# Altium footprint library LS1C300B_176A_Msystem.PcbLib: 22 footprints (part 2 of 2)
Each footprint in its own frame and in the unit in brackets; x right, y up, seen from the top. Pads: shape width x height; smd on the part's side, far side on the other; paste and mask are expansions set on the pad; w line width, h text height; cw(c..) or ccw(c..) is an arc to the next point about the centre after c.
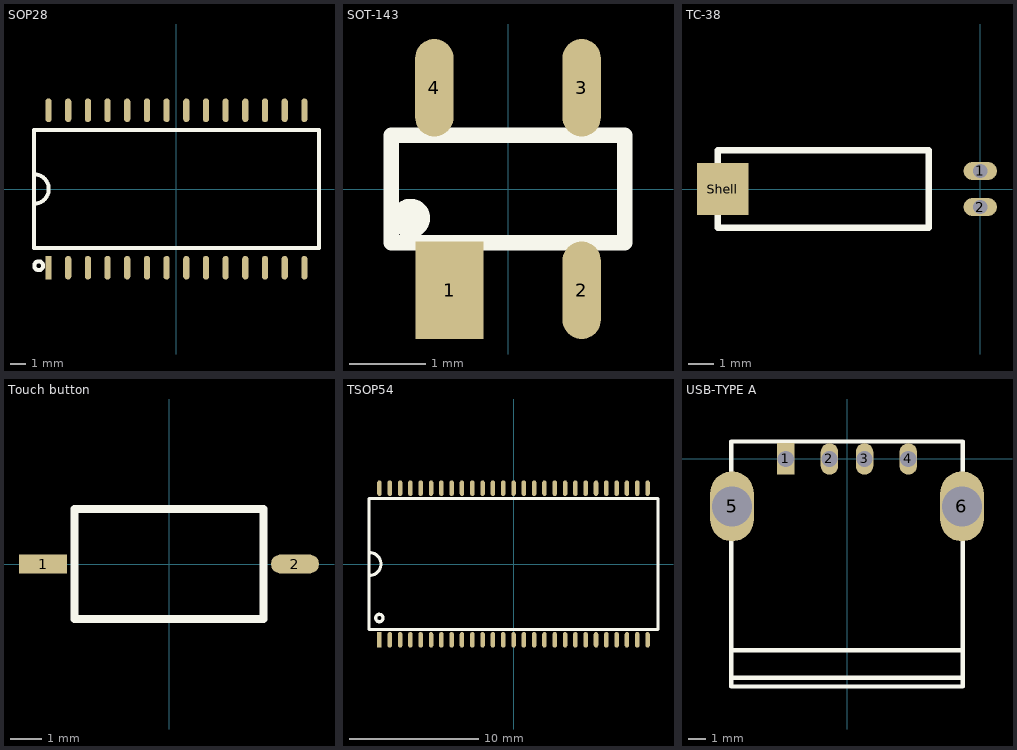
[diagram p1: the footprints below, top view; thin cyan lines are the x and y axes]

## SOP28 [mm] "body  18.4*7.62mm,引脚 18.4*10.16mm，脚间距1.27mm"
height 0.6
pads (28):
  rect 0.4x1.524 smd: 1(-8.255,-5.08)
  oval 0.4x1.524 smd: 2(-6.985,-5.08) 3(-5.715,-5.08) 4(-4.445,-5.08) 5(-3.175,-5.08) 6(-1.905,-5.08) 7(-0.635,-5.08) 8(0.635,-5.08) 9(1.905,-5.08) 10(3.175,-5.08) 11(4.445,-5.08) 12(5.715,-5.08) 13(6.985,-5.08) 14(8.255,-5.08) 15(8.255,5.08) 16(6.985,5.08) 17(5.715,5.08) 18(4.445,5.08) 19(3.175,5.08) 20(1.905,5.08) 21(0.635,5.08) 22(-0.635,5.08) 23(-1.905,5.08) 24(-3.175,5.08) 25(-4.445,5.08) 26(-5.715,5.08) 27(-6.985,5.08) 28(-8.255,5.08)
Top Overlay:
  circle w0.254: c-8.89,-4.953 r0.284
  lines w0.254: -9.2,-0.96 ccw(c-9.2,0) -9.2,0.96 ; -9.2,-3.81 -9.2,3.81 9.2,3.81 9.2,-3.81 -9.2,-3.81
3D body: height 2.54, standoff 0.1, extent -9.144,-3.81 9.271,3.81

## SOT-143 [mm] "长3.04mm，宽1.4mm，脚间距2.64*1.92mm"
height 1.22
pads (4):
  rect 0.89x1.27 smd: 1(-0.762,-1.32)
  oval 0.5x1.27 smd: 2(0.96,-1.32) 3(0.96,1.32) 4(-0.96,1.32)
Top Overlay:
  circle w0.254: c-1.27,-0.381 r0.127
  lines w0.2: -1.52,-0.7 -1.52,0.7 1.52,0.7 1.52,-0.7 -1.52,-0.7
3D body: height 0.5, standoff 0.1, extent -1.143,-1.397 -0.381,-0.762
3D body: height 0.5, standoff 0.1, extent 0.762,-1.397 1.143,-0.762
3D body: height 0.5, standoff 0.1, extent 0.762,0.635 1.143,1.27
3D body: height 0.5, standoff 0.1, extent -1.143,0.635 -0.762,1.27
3D body: height 1.22, standoff 0.1, extent -1.524,-0.762 1.524,0.762

## TC-38 [mm] "长度8.2mm，直径3mm，脚间距1.1mm（1.4mm）"
height 8.2
pads (3):
  oval 1.3x0.7 hole 0.55: 1(0,0.7) 2(0,-0.7)
  rect 2x2 smd: Shell(-10,0)
Top Overlay:
  lines w0.254: -10.2,-1.5 -2,-1.5 -2,1.5 -10.2,1.5 -10.2,-1.5
3D body: height 1.5, standoff 1.2, extent -2.286,-0.841 0,-0.429
3D body: height 1.5, standoff 1.2, extent -2.286,0.508 0,0.92
3D body: height 2.99, standoff 0, extent -10.16,-1.497 -2.16,1.497

## Touch button [mm] "3.5*6*2.5mm"
height 2.5
pads (2):
  rect 1.524x0.6 smd: 1(-4,0)
  oval 1.524x0.6 smd: 2(4,0)
Top Overlay:
  lines w0.254: -3,-1.75 -3,1.75 3,1.75 3,-1.75 -3,-1.75
3D body: height 1.2, standoff 1, extent 1.524,-0.762 2.667,0.762
3D body: height 1.2, standoff 1, extent -2.667,-0.762 -1.524,0.762
3D body: height 0.7, standoff 0.5, extent -3.048,-1.905 3.048,-0.762
3D body: height 0.7, standoff 0.5, extent -3.048,0.762 3.048,1.905
3D body: height 0.7, standoff 0.1, extent -3.048,-1.905 3.048,-1.778
3D body: height 0.7, standoff 0.1, extent -3.048,1.778 3.048,1.905
3D body: height 2.5, standoff 0.5, extent -1.27,-0.635 1.27,0.635
3D body: height 1, standoff 0.5, extent -2.667,-1.397 2.667,1.397
3D body: height 0.5, standoff 0.1, extent -3.048,-1.778 3.048,1.778

## TSOP54 [mm] "body 长宽22.22mm*10.16mm，引脚长宽22.22mm*11.76mm，脚间距0.8mm"
height 1.2
pads (54):
  rect 0.35x1.2 smd: 1(-10.4,-5.88)
  oval 0.35x1.2 smd: 2(-9.6,-5.88) 3(-8.8,-5.88) 4(-8,-5.88) 5(-7.2,-5.88) 6(-6.4,-5.88) 7(-5.6,-5.88) 8(-4.8,-5.88) 9(-4,-5.88) 10(-3.2,-5.88) 11(-2.4,-5.88) 12(-1.6,-5.88) 13(-0.8,-5.88) 14(0,-5.88) 15(0.8,-5.88) 16(1.6,-5.88) 17(2.4,-5.88) 18(3.2,-5.88) 19(4,-5.88) 20(4.8,-5.88) 21(5.6,-5.88) 22(6.4,-5.88) 23(7.2,-5.88) 24(8,-5.88) 25(8.8,-5.88) 26(9.6,-5.88) 27(10.4,-5.88) 28(10.4,5.88) 29(9.6,5.88) 30(8.8,5.88) 31(8,5.88) 32(7.2,5.88) 33(6.4,5.88) 34(5.6,5.88) 35(4.8,5.88) 36(4,5.88) 37(3.2,5.88) 38(2.4,5.88) 39(1.6,5.88) 40(0.8,5.88) 41(0,5.88) 42(-0.8,5.88) 43(-1.6,5.88) 44(-2.4,5.88) 45(-3.2,5.88) 46(-4,5.88) 47(-4.8,5.88) 48(-5.6,5.88) 49(-6.4,5.88) 50(-7.2,5.88) 51(-8,5.88) 52(-8.8,5.88) 53(-9.6,5.88) 54(-10.4,5.88)
Top Overlay:
  circle w0.254: c-10.414,-4.191 r0.288
  lines w0.254: -11.21,-0.889 ccw(c-11.176,0) -11.21,0.889 ; -11.21,-5.08 -11.21,5.08 11.21,5.08 11.21,-5.08 -11.21,-5.08
3D body: height 1.2, standoff 0.1, extent -11.176,-5.08 11.176,5.08

## USB-TYPE A [mm]
pads (6):
  rect 1x1.8 hole 0.92: 1(-3.5,0)
  oval 1x1.8 hole 0.92: 2(-1,0) 3(1,0) 4(3.5,0)
  oval 2.5x4 hole 2.3: 5(-6.57,-2.71) 6(6.57,-2.71)
Top Overlay:
  lines w0.254: -6.625,-10.922 6.604,-10.922 ; -6.625,-12.5 -6.625,-13 6.625,-13 6.625,-12.5 ; -6.625,-12.5 -6.625,1 6.625,1 6.625,-12.5 ; -6.625,-12.5 6.625,-12.5
3D body: height 2.85, standoff 2.55, extent -3.825,-10.16 -3.19,0
3D body: height 2.85, standoff 2.55, extent -1.332,-10.16 -0.697,0
3D body: height 2.85, standoff 2.55, extent 0.668,-10.16 1.303,0
3D body: height 2.85, standoff 2.55, extent 3.175,-10.16 3.81,0
3D body: height 4.85, standoff 2.85, extent -5.08,-12.446 5.08,0.635
3D body: height 5.65, standoff 0.1, extent -6.604,0.635 6.604,1.016
3D body: height 2.85, standoff -2, extent -6.824,-3.789 -6.316,-1.63
3D body: height 2.85, standoff -2, extent 6.35,-3.81 6.858,-1.651
3D body: height 2.85, standoff -2, extent 3.063,-0.127 3.952,0.127
3D body: height 2.85, standoff -2, extent 0.563,-0.127 1.452,0.127
3D body: height 2.85, standoff -2, extent -1.437,-0.127 -0.548,0.127
3D body: height 2.85, standoff -2, extent -3.937,-0.127 -3.048,0.127
3D body: height 5.9, standoff 5.35, extent -6.35,-12.954 6.35,-12.573
3D body: height 0.3, standoff -0.45, extent -6.35,-12.954 6.35,-12.573
3D body: height 5.65, standoff 0.1, extent 6.35,-12.954 6.604,1.016
3D body: height 5.65, standoff 0.1, extent -6.604,-12.954 -6.35,1.016
3D body: height 5.65, standoff 5.35, extent -6.604,-12.954 6.604,1.016
3D body: height 0.3, standoff 0.1, extent -6.604,-12.954 6.604,1.016